# Altium schematic symbol library AP7354D-XXW5-7.SchLib: 1 symbol
Pins are listed as number, name and electrical type; pins without a type are passive.

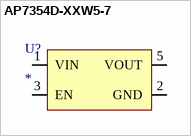
[diagram p0: symbol AP7354D-XXW5-7]

## AP7354D-XXW5-7
designator U?
Value: *
pins: 1 VIN, 2 GND (power), 3 EN, 5 VOUT (power)